# Altium schematic symbol library PhoneJack.SchLib: 4 symbols
Pins are listed as number, name and electrical type; pins without a type are passive.

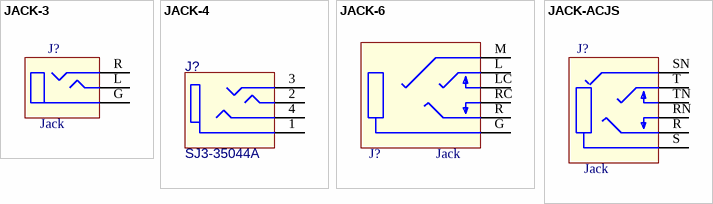
[diagram p0: symbols JACK-3 to JACK-ACJS]

## JACK-3
designator J?, comment value Jack  (hidden comment: AUB-13)
Phonejack Stereo
footprint STX-3501-3N (Stereo jack socket 3,5mm)
pins: G, L, R

## JACK-4
designator J?  value SJ3-35044A
Phonejack Stereo+MIC
footprint SJ3-35044A
pins: 1, 2, 3, 4

## JACK-6
designator J?  value Jack
Phonejack Stereo+MIC
pins: G, L, LC, M, R, RC

## JACK-ACJS
designator J?  value Jack
Phonejack Stereo
footprint ACJS-PC (Stereo jack socket 6mm)
pins: R, RN, S, SN, T, TN